# EAGLE library part UWE-3.3/20-Q12PB-C (library New Power Board Library)
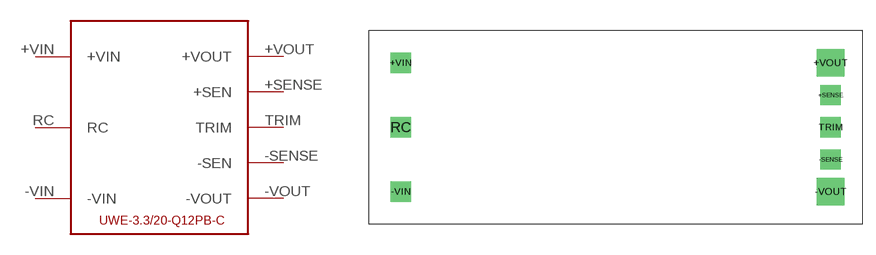
[diagram p6: symbol with the pads of UWE-100-120W; footprint UWE-100-120W]

Designator prefix U

## UWE-3.3/20-Q12PB-C  [UWE-100-120W]
+SENSE  +SEN
+VIN  +VIN  pwr
+VOUT  +VOUT  pwr
-SENSE  -SEN
-VIN  -VIN  pwr
-VOUT  -VOUT  pwr
RC  RC
TRIM  TRIM

## Footprint UWE-100-120W (pad centres in mm)
drill 1.6 square: +SENSE 25.4,3.81; +VIN -25.4,7.62; -SENSE 25.4,-3.81; -VIN -25.4,-7.62; RC -25.4,0; TRIM 25.4,0
drill 2.2 square: +VOUT 25.4,7.62; -VOUT 25.4,-7.62